# EAGLE library part 66201111122 (library Wire-to-Board (rev18a))
WR-MPC3 3.00mm Male Single Row Vertical Header, 11 Pins=>Code : Con_WTB_MPC3_1_PCB_66201111122 <http://katalog.we-online.de/media/thumbs2/eican/thb_Con_WTB_MPC3_1_PCB_6620xx11122_pf2.jpg> Details see: http://katalog.we-online.de/en/em/MPC3_3_00_MALE_SINGLE_ROW_VERTICAL_HEADER_6620XX11122 Created 2014-06-06, Karrer Zheng 2014 (C) Würth Elektronik
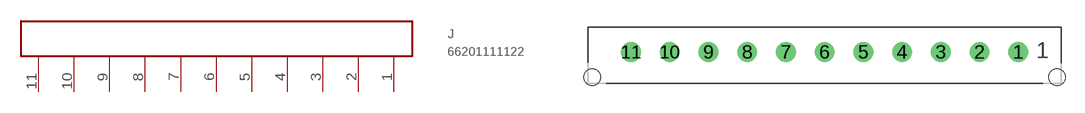
[diagram p357: symbol with the pads of 66201111122; footprint 66201111122]

Designator prefix J

## 66201111122  [66201111122]
1  11  pas
2  10  pas
3  9  pas
4  8  pas
5  7  pas
6  6  pas
7  5  pas
8  4  pas
9  3  pas
10  2  hiz
11  1  pas

## Footprint 66201111122 (pad centres in mm)
WR-MPC3 3.00mm Male Single Row Vertical Header, 11 Pins
drill 1.02: 1 15,0; 2 12,0; 3 9,0; 4 6,0; 5 3,0; 6 0,0; 7 -3,0; 8 -6,0; 9 -9,0; 10 -12,0; 11 -15,0
hole 1.27 at 18,-1.96
hole 1.27 at -18,-1.96